# Altium integrated library Altium_ESD.IntLib: 7 symbols
Pins are listed as number, name and electrical type; pins without a type are passive.

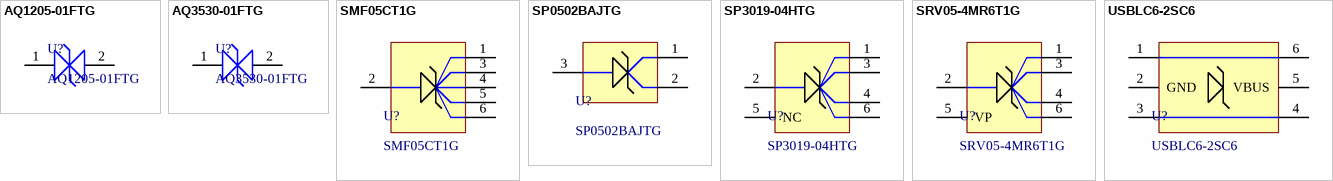
[diagram p0: symbols AQ1205-01FTG to USBLC6-2SC6]

## AQ1205-01FTG
designator U?
ESD Suppressors / TVS Diodes 5V 7A 30kV SOD323 Bi-dir TVS; Manufacture: Littelfuse; Supply 1 Name: Mouser; Supply 2 Name: Digi-Key; Supply 3 Name: thegioiic; Breakdown Voltage: 5.1V; Clamping Voltage: 10V; Diode Capacitance: 7pF; Number of Channels: 1; Supply 1 SN: 576-AQ1205-01FTG; Supply 2 SN: 18-AQ1205-01FTGTR-ND; Supply 3 SN: N/A; Supply 3 URL: N/A; ComponentLink1Description: Datasheet; ComponentLink1URL: https://www.mouser.vn/datasheet/2/240/media-3320499.pdf; Manufacture SN: AQ1205-01FTG; Operating Temperature: -40 - 150; Peak Pulse Current: 7A; Peak Pulse Power Dissipation: N/A; Supply 1 URL: https://www.mouser.vn/ProductDetail/Littelfuse/AQ1205-01FTG?qs=tlsG%2FOw5FFgT817I6cPGrg%3D%3D; Supply 2 URL: https://www.digikey.com/en/products/detail/littelfuse-inc/aq1205-01ftg/17128325; Voltage ESD Air Gap: 30kV; Voltage ESD Contact: 30kV; Working Voltage: 5V
footprint SOD323 (TSOP, 2-Leads, Body 1.30x1.70mm, Pitch 0.65mm, IPC Medium Density)
pins: 1, 2

## AQ3530-01FTG
designator U?
ESD Suppressors / TVS Diodes 5V 2.5A 22KV UNI-DIR; Manufacture: Littelfuse; Supply 1 Name: Mouser; Supply 2 Name: Digi-Key; Supply 3 Name: thegioiic; Breakdown Voltage: 7.5V; Clamping Voltage: 15V; Diode Capacitance: 0.3pF; Number of Channels: 1; Supply 1 SN: 576-AQ3530-01FTG; Supply 2 SN: 18-AQ3530-01FTGTR-ND; Voltage ESD Contact: 30kV; Supply 3 SN: N/A; Supply 3 URL: N/A; ComponentLink1Description: Datasheet; ComponentLink1URL: https://www.mouser.vn/datasheet/2/240/media-3319807.pdf; Manufacture SN: AQ3530-01FTG; Operating Temperature: -40 - 150; Peak Pulse Current: N/A; Peak Pulse Power Dissipation: N/A; Supply 1 URL: https://www.mouser.vn/ProductDetail/Littelfuse/AQ3530-01FTG?qs=yqaQSyyJnNi2YblDWyDyIw%3D%3D; Supply 2 URL: https://www.digikey.com/en/products/detail/littelfuse-inc/aq3530-01ftg/13168732; Voltage ESD Air Gap: 22kV; Working Voltage: 5V
footprint SOD323 (TSOP, 2-Leads, Body 1.30x1.70mm, Pitch 0.65mm, IPC Medium Density)
pins: 1, 2

## SMF05CT1G
designator U?
SC−88 FIVE SURGE PROTECTION 100 W PEAK POWER; Manufacture: onsemi; Number of Channels: 5; Working Voltage: 5V; Clamping Voltage: 12.5V; Breakdown Voltage: 6.2V; Peak Pulse Current: 8A; Supply 1 Name: Mouser; Supply 1 SN: 863-SMF05CT1G; Supply 2 Name: Digi-Key; Supply 2 SN: SMF05CT1GOSTR-ND; Supply 3 Name: thegioiic; Peak Pulse Power Dissipation: 100W; Voltage ESD Contact: 15kV; Diode Capacitance: 5pF; Supply 1 URL: https://www.mouser.vn/ProductDetail/onsemi/SMF05CT1G?qs=xZq1yRCsb1c8sZHBbx4IBw%3D%3D; Supply 2 URL: https://www.digikey.com/en/products/detail/onsemi/smf05ct1g/921631; Supply 3 URL: https://www.thegioiic.com/smf05c-esd-protection-diode-array-sot-363; Supply 3 SN: N/A; Operating Temperature: -40 - 125; Voltage ESD Air Gap: 15kV; ComponentLink1Description: Datasheet; ComponentLink1URL: https://www.mouser.vn/datasheet/2/308/1/SMF05C_D-2319973.pdf; Manufacture SN: SMF05CT1G
footprint SMF05CT1_SOT23 (SOT23, 6-Leads, Body 2.00x2.10mm, Pitch 0.65mm, IPC Medium Density)
pins: 1, 2, 3, 4, 5, 6

## SP0502BAJTG
designator U?
ESD Suppressors / TVS Diodes 2 Channel SMT array SC70; Manufacture: Littelfuse; Supply 1 Name: Mouser; Supply 2 Name: Digi-Key; Supply 3 Name: thegioiic; Breakdown Voltage: 6V; Clamping Voltage: 12V; Diode Capacitance: 1pF; Number of Channels: 2; Peak Pulse Current: 2A; Peak Pulse Power Dissipation: 25W; Supply 1 SN: 576-SP0502BAJTG; Supply 2 SN: F3158TR-ND; Voltage ESD Air Gap: 15kV; Voltage ESD Contact: 20kV; Working Voltage: 5V; Supply 3 SN: N/A; Supply 3 URL: N/A; ComponentLink1Description: Datasheet; ComponentLink1URL: https://www.mouser.vn/datasheet/2/240/media-3319443.pdf; Manufacture SN: SP0502BAJTG; Operating Temperature: -40 - 125; Supply 1 URL: https://www.mouser.vn/ProductDetail/Littelfuse/SP0502BAJTG?qs=RnOBYWd%2Fz7cttN1Mwg4HWA%3D%3D; Supply 2 URL: https://www.digikey.com/en/products/detail/littelfuse-inc/sp0502bajtg/1210793
footprint SP03_SOT23 (SOT23, 3-Leads, Body 2.93x2.37mm, Pitch 0.95mm, IPC Medium Density)
pins: 1, 2, 3

## SP3019-04HTG
designator U?
ESD Suppressors / TVS Diodes 0.3pF SOT23-6L 4 Ch Diode Array; Manufacture: Littelfuse; Supply 1 Name: Mouser; Supply 2 Name: Digi-Key; Supply 3 Name: thegioiic; Breakdown Voltage: 8.2V; Clamping Voltage: 11.5V; Number of Channels: 4; Peak Pulse Current: 2.5A; Supply 1 SN: 576-SP3019-04HTG; Supply 2 SN: F10979TR-ND; Voltage ESD Air Gap: 15kV; Working Voltage: 5V; Supply 3 URL: N/A; Supply 3 SN: N/A; ComponentLink1Description: Datasheet; ComponentLink1URL: https://www.mouser.vn/datasheet/2/240/media-3323684.pdf; Diode Capacitance: 0.3pF; Manufacture SN: SP3019-04HTG; Operating Temperature: -40 - 125; Peak Pulse Power Dissipation: N/A; Supply 1 URL: https://www.mouser.vn/ProductDetail/Littelfuse/SP3019-04HTG?qs=chTDxNqvsykDkkNIkCeKfg%3D%3D; Supply 2 URL: https://www.digikey.com/en/products/detail/littelfuse-inc/sp3019-04htg/8123981; Voltage ESD Contact: 15kV
footprint SOT23-6L (SOT23, 6-Leads, Body 2.90x2.80mm, Pitch 0.95mm, IPC Medium Density)
pins: 1, 2, 3, 4, 5 NC, 6

## SRV05-4MR6T1G
designator U?
ESD Suppressors / TVS Diodes LOW CAP TSOP-6 SMB SPCL; Manufacture: onsemi; Supply 1 Name: Mouser; Supply 2 Name: Digi-Key; Supply 3 Name: thegioiic; Breakdown Voltage: 6V; Clamping Voltage: 17.5V; Diode Capacitance: 5pF; Number of Channels: 4; Peak Pulse Current: 5A; Peak Pulse Power Dissipation: 300W; Supply 1 SN: 863-SRV05-4MR6T1G; Supply 2 SN: 488-SRV05-4MR6T1GTR-ND; Voltage ESD Air Gap: 30kV; Working Voltage: 5V; Supply 3 URL: N/A; Supply 3 SN: N/A; ComponentLink1Description: Datasheet; ComponentLink1URL: https://www.mouser.vn/datasheet/2/308/1/SRV05_4_D-2320033.pdf; Manufacture SN: SRV05-4MR6T1G; Operating Temperature: -40 - 125; Supply 1 URL: https://www.mouser.vn/ProductDetail/onsemi/SRV05-4MR6T1G?qs=unWjWFgkqcg61n2fM3DdZg%3D%3D; Supply 2 URL: https://www.digikey.com/en/products/detail/onsemi/srv05-4mr6t1g/2652020; Voltage ESD Contact: 30kV
footprint TSOP6 (TSOP, 6-Leads, Body 3.00x1.50mm, Pitch 0.95mm, IPC Medium Density)
pins: 1, 2, 3, 4, 5 VP, 6

## USBLC6-2SC6
designator U?
ESD Suppressors / TVS Diodes ESD Protection Low Cap; Manufacture: STMicroelectronics; Supply 1 Name: Mouser; Supply 2 Name: Digi-Key; Supply 3 Name: thegioiic; Breakdown Voltage: 6V; Clamping Voltage: 17V; Diode Capacitance: 3.5pF; Number of Channels: 2; Peak Pulse Current: 5A; Supply 1 SN: 511-USBLC6-2SC6; Supply 2 SN: 497-5235-2-ND; Voltage ESD Air Gap: 15kV; Working Voltage: 5.25V; Supply 3 SN: N/A; Supply 3 URL: N/A; ComponentLink1Description: Datasheet; ComponentLink1URL: https://www.mouser.vn/datasheet/2/389/usblc6_2-1852789.pdf; Manufacture SN: USBLC6-2SC6; Operating Temperature: -40 - 125; Peak Pulse Power Dissipation: N/A; Supply 1 URL: https://www.mouser.vn/ProductDetail/STMicroelectronics/USBLC6-2SC6?qs=po45yt2pPpu%2FhNIlwQdTlg%3D%3D; Supply 2 URL: https://www.digikey.com/en/products/detail/stmicroelectronics/usblc6-2sc6/1040559; Voltage ESD Contact: 15kV
footprint SOT23-6L (SOT23, 6-Leads, Body 2.90x2.80mm, Pitch 0.95mm, IPC Medium Density)
pins: 1, 2 GND, 3, 4, 5 VBUS, 6